# Altium integrated library Philips Discrete MOSFET - Power.IntLib: 73 symbols (part 2 of 2)
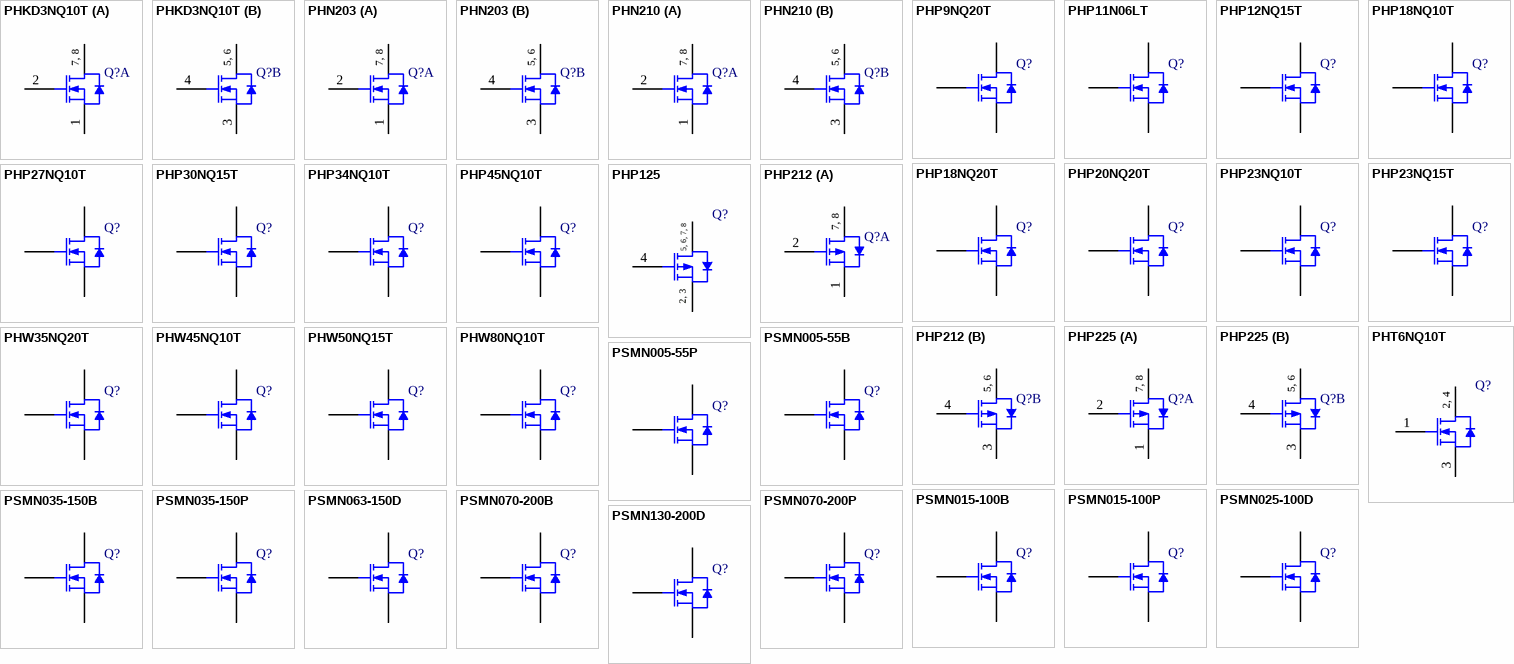
[diagram p2: symbols PHKD3NQ10T to PSMN130-200D]

## PHW80NQ10T
designator Q?
N-channel Enhancement Mode Field-effect Power Transistor; Note: TAB is connected to Drain; Published: 17-Sep-2003; DatasheetVersion: Aug-1999; PackageVersion: rev1.0, Aug-1999; PackageReference: SOT429; Publisher: Altium Limited; PackageDescription: SIP with Mounting Hole; 3 Leads; Body 20.5 x 15.5 x 5 mm (typ); Pitch 5.45 mm; Code_JEDEC: TO-247-AE; ComponentLink1Description: Manufacturer Link; ComponentLink1URL: http://www.semiconductors.philips.com/; ComponentLink2Description: Datasheet; ComponentLink2URL: http://www.semiconductors.philips.com/acrobat/datasheets/PHW80NQ10T_1.pdf
footprint SOT429 (SIP with Mounting Hole; 3 Leads; Body 20.5 x 15.5 x 5 mm (typ); Pitch 5.45 mm)
simulation model PHW80NQ10T (SUBCKT)
pins: 1 G, 2 D, 3 S

## PSMN005-55B
designator Q?
N-channel Logic Level MOSFET; Note: Pin 2 is trimmed (and not drawn) and is electrically connected to Drain; Published: 17-Sep-2003; DatasheetVersion: Oct-1999; PackageVersion: rev1.0, Aug-1999; PackageReference: SOT404; Publisher: Altium Limited; PackageDescription: D2-PAK/TO-263-AB; 3 Leads (1 Cropped); Body 15.4 (inc. leads) x 10.3 mm (LxW max); ComponentLink1Description: Manufacturer Link; ComponentLink1URL: http://www.semiconductors.philips.com/; ComponentLink2Description: Datasheet; ComponentLink2URL: http://www.semiconductors.philips.com/acrobat/datasheets/PSMN005-55B_P_HG_4.pdf
footprint SOT404 (D2-PAK/TO-263-AB; 3 Leads (1 Cropped); Body 15.4 (inc. leads) x 10.3 mm (LxW max))
simulation model PSMN005-55B (SUBCKT)
pins: 1 G, 3 S, 4 D

## PSMN005-55P
designator Q?
N-channel Logic Level MOSFET; Note: TAB is connected to Drain; Published: 17-Sep-2003; DatasheetVersion: Oct-1999; PackageVersion: rev1.0, Aug-1999; PackageReference: SOT78; Publisher: Altium Limited; PackageDescription: TO, Thru-Hole, Vertical, Heatsink Mounted; 3 In-Line Leads; Pitch 2.54 mm; Code_JEDEC: TO-220; ComponentLink1Description: Manufacturer Link; ComponentLink1URL: http://www.semiconductors.philips.com/; ComponentLink2Description: Datasheet; ComponentLink2URL: http://www.semiconductors.philips.com/acrobat/datasheets/PSMN005-55B_P_HG_4.pdf
footprint SOT78 (TO, Thru-Hole, Vertical, Heatsink Mounted; 3 In-Line Leads; Pitch 2.54 mm)
simulation model PSMN005-55P (SUBCKT)
pins: 1 G, 2 D, 3 S

## PSMN015-100B
designator Q?
N-channel MOSFET; Note: Pin 2 is trimmed (and not drawn) and is electrically connected to Drain; Published: 17-Sep-2003; DatasheetVersion: Aug-1999; PackageVersion: rev1.0, Aug-1999; PackageReference: SOT404; Publisher: Altium Limited; PackageDescription: D2-PAK/TO-263-AB; 3 Leads (1 Cropped); Body 15.4 (inc. leads) x 10.3 mm (LxW max); ComponentLink1Description: Manufacturer Link; ComponentLink1URL: http://www.semiconductors.philips.com/; ComponentLink2Description: Datasheet; ComponentLink2URL: http://www.semiconductors.philips.com/acrobat/datasheets/PSMN015_100P_100B-05.pdf
footprint SOT404 (D2-PAK/TO-263-AB; 3 Leads (1 Cropped); Body 15.4 (inc. leads) x 10.3 mm (LxW max))
simulation model PSMN015-100B (SUBCKT)
pins: 1 G, 3 S, 4 D

## PSMN015-100P
designator Q?
N-channel MOSFET; Note: TAB is connected to Drain; Published: 17-Sep-2003; DatasheetVersion: Aug-1999; PackageVersion: rev1.0, Aug-1999; PackageReference: SOT78; Publisher: Altium Limited; PackageDescription: TO, Thru-Hole, Vertical, Heatsink Mounted; 3 In-Line Leads; Pitch 2.54 mm; Code_JEDEC: TO-220; ComponentLink1Description: Manufacturer Link; ComponentLink1URL: http://www.semiconductors.philips.com/; ComponentLink2Description: Datasheet; ComponentLink2URL: http://www.semiconductors.philips.com/acrobat/datasheets/PSMN015_100P_100B-05.pdf
footprint SOT78 (TO, Thru-Hole, Vertical, Heatsink Mounted; 3 In-Line Leads; Pitch 2.54 mm)
simulation model PSMN015-100P (SUBCKT)
pins: 1 G, 2 D, 3 S

## PSMN025-100D
designator Q?
N-channel MOSFET; Note: Pin 2 is trimmed (and not drawn) and is electrically connected to Drain; Published: 17-Sep-2003; DatasheetVersion: Aug-1999; PackageVersion: rev1.0, Aug-1999; PackageReference: SOT428; Publisher: Altium Limited; PackageDescription: D-PAK/TO-252-AA; 3 Leads (1 Cropped); Body 10.4 (inc. leads) x 6.7 mm (LxW max); Code_JEDEC: TO-252; Code_IPC: TS-003; ComponentLink1Description: Manufacturer Link; ComponentLink1URL: http://www.semiconductors.philips.com/; ComponentLink2Description: Datasheet; ComponentLink2URL: http://www.semiconductors.philips.com/acrobat/datasheets/PSMN025-100D_2.pdf
footprint SOT428 (D-PAK/TO-252-AA; 3 Leads (1 Cropped); Body 10.4 (inc. leads) x 6.7 mm (LxW max))
simulation model PSMN025-100D (SUBCKT)
pins: 1 G, 3 S, 4 D

## PSMN035-150B
designator Q?
N-channel Enhancement Mode Field-effect Transistor; Note: Pin 2 is trimmed (and not drawn) and is electrically connected to Drain; Published: 17-Sep-2003; DatasheetVersion: 22-Feb-2001; PackageVersion: rev1.0, Aug-1999; PackageReference: SOT404; Publisher: Altium Limited; PackageDescription: D2-PAK/TO-263-AB; 3 Leads (1 Cropped); Body 15.4 (inc. leads) x 10.3 mm (LxW max); ComponentLink1Description: Manufacturer Link; ComponentLink1URL: http://www.semiconductors.philips.com/; ComponentLink2Description: Datasheet; ComponentLink2URL: http://www.semiconductors.philips.com/acrobat/datasheets/PSMN035_150_SERIES-04.pdf
footprint SOT404 (D2-PAK/TO-263-AB; 3 Leads (1 Cropped); Body 15.4 (inc. leads) x 10.3 mm (LxW max))
simulation model PSMN035-150B (SUBCKT)
pins: 1 G, 3 S, 4 D

## PSMN035-150P
designator Q?
N-channel Enhancement Mode Field-effect Transistor; Note: TAB is connected to Drain; Published: 17-Sep-2003; DatasheetVersion: 22-Feb-2001; PackageVersion: rev1.0, Aug-1999; PackageReference: SOT78; Publisher: Altium Limited; PackageDescription: TO, Thru-Hole, Vertical, Heatsink Mounted; 3 In-Line Leads; Pitch 2.54 mm; Code_JEDEC: TO-220; ComponentLink1Description: Manufacturer Link; ComponentLink1URL: http://www.semiconductors.philips.com/; ComponentLink2Description: Datasheet; ComponentLink2URL: http://www.semiconductors.philips.com/acrobat/datasheets/PSMN035_150_SERIES-04.pdf
footprint SOT78 (TO, Thru-Hole, Vertical, Heatsink Mounted; 3 In-Line Leads; Pitch 2.54 mm)
simulation model PSMN035-150P (SUBCKT)
pins: 1 G, 2 D, 3 S

## PSMN063-150D
designator Q?
N-channel Enhancement Mode Field-effect Transistor; Note: Pin 2 is trimmed (and not drawn) and is electrically connected to Drain; Published: 17-Sep-2003; DatasheetVersion: 31-Oct-2001; PackageVersion: rev1.0, Aug-1999; PackageReference: SOT428; Publisher: Altium Limited; PackageDescription: D-PAK/TO-252-AA; 3 Leads (1 Cropped); Body 10.4 (inc. leads) x 6.7 mm (LxW max); Code_JEDEC: TO-252; Code_IPC: TS-003; ComponentLink1Description: Manufacturer Link; ComponentLink1URL: http://www.semiconductors.philips.com/; ComponentLink2Description: Datasheet; ComponentLink2URL: http://www.semiconductors.philips.com/acrobat/datasheets/PSMN063_150D-03.pdf
footprint SOT428 (D-PAK/TO-252-AA; 3 Leads (1 Cropped); Body 10.4 (inc. leads) x 6.7 mm (LxW max))
simulation model PSMN063-150D (SUBCKT)
pins: 1 G, 3 S, 4 D

## PSMN070-200B
designator Q?
N-channel MOSFET; Note: Pin 2 is trimmed (and not drawn) and is electrically connected to Drain; Published: 17-Sep-2003; DatasheetVersion: Aug-1999; PackageVersion: rev1.0, Aug-1999; PackageReference: SOT404; Publisher: Altium Limited; PackageDescription: D2-PAK/TO-263-AB; 3 Leads (1 Cropped); Body 15.4 (inc. leads) x 10.3 mm (LxW max); ComponentLink1Description: Manufacturer Link; ComponentLink1URL: http://www.semiconductors.philips.com/; ComponentLink2Description: Datasheet; ComponentLink2URL: http://www.semiconductors.philips.com/acrobat/datasheets/PSMN070-200_SERIES_HG_3.pdf
footprint SOT404 (D2-PAK/TO-263-AB; 3 Leads (1 Cropped); Body 15.4 (inc. leads) x 10.3 mm (LxW max))
simulation model PSMN070-200B (SUBCKT)
pins: 1 G, 3 S, 4 D

## PSMN070-200P
designator Q?
N-channel MOSFET; Note: TAB is connected to Drain; Published: 17-Sep-2003; DatasheetVersion: Aug-1999; PackageVersion: rev1.0, Aug-1999; PackageReference: SOT78; Publisher: Altium Limited; PackageDescription: TO, Thru-Hole, Vertical, Heatsink Mounted; 3 In-Line Leads; Pitch 2.54 mm; Code_JEDEC: TO-220; ComponentLink1Description: Manufacturer Link; ComponentLink1URL: http://www.semiconductors.philips.com/; ComponentLink2Description: Datasheet; ComponentLink2URL: http://www.semiconductors.philips.com/acrobat/datasheets/PSMN070-200_SERIES_HG_3.pdf
footprint SOT78 (TO, Thru-Hole, Vertical, Heatsink Mounted; 3 In-Line Leads; Pitch 2.54 mm)
simulation model PSMN070-200P (SUBCKT)
pins: 1 G, 2 D, 3 S

## PSMN130-200D
designator Q?
N-channel MOSFET; Note: Pin 2 is trimmed (and not drawn) and is electrically connected to Drain; Published: 17-Sep-2003; DatasheetVersion: Aug-1999; PackageVersion: rev1.0, Aug-1999; PackageReference: SOT428; Publisher: Altium Limited; PackageDescription: D-PAK/TO-252-AA; 3 Leads (1 Cropped); Body 10.4 (inc. leads) x 6.7 mm (LxW max); Code_JEDEC: TO-252; Code_IPC: TS-003; ComponentLink1Description: Manufacturer Link; ComponentLink1URL: http://www.semiconductors.philips.com/; ComponentLink2Description: Datasheet; ComponentLink2URL: http://www.semiconductors.philips.com/acrobat/datasheets/PSMN130-200D_HG_3.pdf
footprint SOT428 (D-PAK/TO-252-AA; 3 Leads (1 Cropped); Body 10.4 (inc. leads) x 6.7 mm (LxW max))
simulation model PSMN130-200D (SUBCKT)
pins: 1 G, 3 S, 4 D